# Altium footprint library USB_A_TH.PcbLib: 1 footprints
Each footprint in its own frame and in the unit in brackets; x right, y up, seen from the top. Pads: shape width x height; smd on the part's side, far side on the other; paste and mask are expansions set on the pad; w line width, h text height; cw(c..) or ccw(c..) is an arc to the next point about the centre after c.
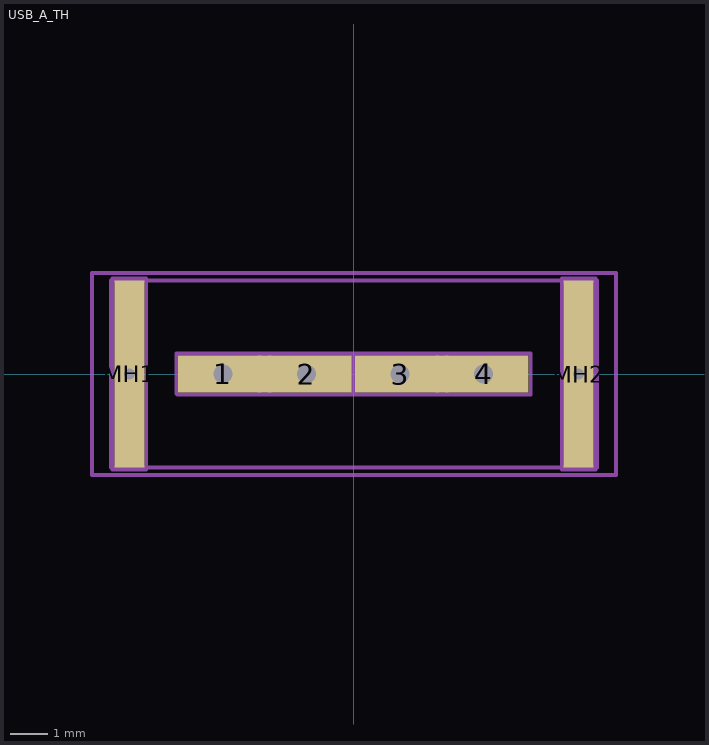
[diagram p0: the footprint, top view; thin cyan lines are the x and y axes]

## USB_A_TH [mm]
pads (6):
  rect 2.4x1 hole 0.5 square: 1(-3.5,0) 2(-1.27,0) 3(1.23,0) 4(3.46,0)
  rect 0.8x5 hole 0.3 square: MH1(-6,0) MH2(6,0)
Mechanical 3:
  lines w0.1: -6.5,-2.5 -6.5,2.5 6.5,2.5 6.5,-2.5 -6.5,-2.5
Mechanical 5:
  lines w0.1: -0.025,0.55 2.475,0.55 2.475,-0.55 0,-0.55 -0.025,-0.525 -0.025,0.55 ; -0.025,0.55 -0.025,-0.55 -2.5,-0.55 -2.525,-0.525 -2.525,0.55 -0.025,0.55 ; -6.45,-2.55 -6.45,2.55 -5.55,2.55 -5.55,-2.55 -6.45,-2.55 ; -4.75,-0.525 -4.725,-0.55 -2.25,-0.55 -2.25,0.55 -4.75,0.55 -4.75,-0.525 ; 2.225,-0.525 2.25,-0.55 4.725,-0.55 4.725,0.55 2.225,0.55 2.225,-0.525 ; 5.55,-2.55 6.45,-2.55 6.45,2.55 5.55,2.55 5.55,-2.55
Mechanical 7:
  lines w0.1: -7,-2.7 -7,2.7 7,2.7 7,-2.7 -7,-2.7
Mechanical 9:
  text "'.Designator'" at -5.7,-1.9 h1
3D body: height 22.61, standoff -7.34, extent -7,-2.7 7,2.7